# Altium schematic symbol library Resistors-0402.SchLib: 109 symbols (part 2 of 2)
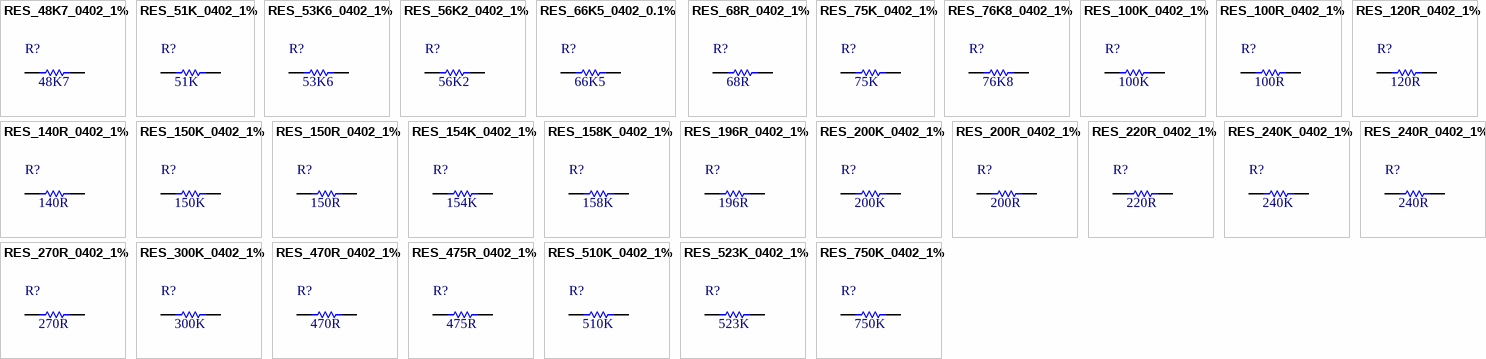
[diagram p3: symbols RES_48K7_0402_1% to RES_750K_0402_1%]

## RES_270R_0402_1%
designator R?, comment value 270R  (hidden comment: 270R 1% 0402)
270R 0.063W 1% 0402 (1005 Metric); Manufacturer: KOA Speer; PartNumber: RK73H1ETTP2700F; Tolerance: 1%; Power: 0.063W; Mounting Technology: Surface Mount; PackageReference: 0402; PackageDescription: 0402 (1005 Metric); ComponentLink1Description: Datasheet; ComponentLink1URL: http://www.koaspeer.com/catimages/Products/RK73H/RK73H.pdf
footprint R0402[1005] (Chip Resistor, Body 1.0x0.5mm)
pins: 1, 2

## RES_300K_0402_1%
designator R?, comment value 300K  (hidden comment: 300K 1% 0402)
300K 0.063W 1% 0402 (1005 Metric); Manufacturer: KOA Speer; PartNumber: RK73H1ETTP3003F; Tolerance: 1%; Power: 0.063W; Mounting Technology: Surface Mount; PackageReference: 0402; PackageDescription: 0402 (1005 Metric); ComponentLink1Description: Datasheet; ComponentLink1URL: http://www.koaspeer.com/catimages/Products/RK73H/RK73H.pdf
footprint R0402[1005] (Chip Resistor, Body 1.0x0.5mm)
pins: 1, 2

## RES_470R_0402_1%
designator R?, comment value 470R  (hidden comment: 470R 1% 0402)
470R 0.063W 1% 0402 (1005 Metric); Manufacturer: KOA Speer; PartNumber: RK73H1ETTP4700F; Tolerance: 1%; Power: 0.063W; Mounting Technology: Surface Mount; PackageReference: 0402; PackageDescription: 0402 (1005 Metric); ComponentLink1Description: Datasheet; ComponentLink1URL: http://www.koaspeer.com/catimages/Products/RK73H/RK73H.pdf
footprint R0402[1005] (Chip Resistor, Body 1.0x0.5mm)
pins: 1, 2

## RES_475R_0402_1%
designator R?, comment value 475R  (hidden comment: 475R 1% 0402)
475R 0.063W 1% 0402 (1005 Metric); Manufacturer: KOA Speer; PartNumber: RK73H1ETTP4750F; Tolerance: 1%; Power: 0.063W; Mounting Technology: Surface Mount; PackageReference: 0402; PackageDescription: 0402 (1005 Metric); ComponentLink1Description: Datasheet; ComponentLink1URL: http://www.koaspeer.com/catimages/Products/RK73H/RK73H.pdf
footprint R0402[1005] (Chip Resistor, Body 1.0x0.5mm)
pins: 1, 2

## RES_510K_0402_1%
designator R?, comment value 510K  (hidden comment: 510K 1% 0402)
510K 0.063W 1% 0402 (1005 Metric); Manufacturer: KOA Speer; PartNumber: RK73H1ETTP5103F; Tolerance: 1%; Power: 0.063W; Mounting Technology: Surface Mount; PackageReference: 0402; PackageDescription: 0402 (1005 Metric); ComponentLink1Description: Datasheet; ComponentLink1URL: http://www.koaspeer.com/catimages/Products/RK73H/RK73H.pdf
footprint R0402[1005] (Chip Resistor, Body 1.0x0.5mm)
pins: 1, 2

## RES_523K_0402_1%
designator R?, comment value 523K  (hidden comment: 523K 1% 0402)
523K 0.063W 1% 0402 (1005 Metric); Manufacturer: KOA Speer; PartNumber: RK73H1ETTP5233F; Tolerance: 1%; Power: 0.063W; Mounting Technology: Surface Mount; PackageReference: 0402; PackageDescription: 0402 (1005 Metric); ComponentLink1Description: Datasheet; ComponentLink1URL: http://www.koaspeer.com/catimages/Products/RK73H/RK73H.pdf
footprint R0402[1005] (Chip Resistor, Body 1.0x0.5mm)
pins: 1, 2

## RES_750K_0402_1%
designator R?, comment value 750K  (hidden comment: 750K 1% 0402)
750K 0.063W 1% 0402 (1005 Metric); Manufacturer: KOA Speer; PartNumber: RK73H1ETTP7503F; Tolerance: 1%; Power: 0.063W; Mounting Technology: Surface Mount; PackageReference: 0402; PackageDescription: 0402 (1005 Metric); ComponentLink1Description: Datasheet; ComponentLink1URL: http://www.koaspeer.com/catimages/Products/RK73H/RK73H.pdf
footprint R0402[1005] (Chip Resistor, Body 1.0x0.5mm)
pins: 1, 2